# EAGLE library part 181-015-2 (library Connector_D-Sub)
D-SUB, 15POS, RCPT, R/A SLDR Datasheet <https://content.norcomp.net/rohspdfs/Connectors/18Y/181/181-YYY-213RYY1.pdf>
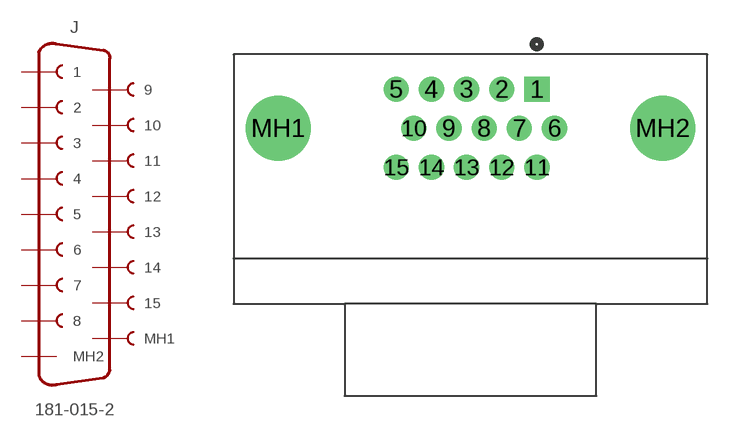
[diagram p6: symbol with the pads of 181-015-213R561; footprint 181-015-213R561]

Designator prefix J

## 181-015-2 (CATEGORY: Connector; GENDER: Female; MANUFACTURER: NorComp; MPN: 181-015-213R561; OPERATING_TEMPERATURE: -50 C to +100 C; PART_STATUS: ACTIVE; ROHS_COMPLIANT: COMPLIANT; SERIES: 181; SUB_CATEGORY: D-SUB; TYPE: R/A; VALUE: D-SUB-RCPT-15P)  [181-015-213R561]
1  1  pas
2  2  pas
3  3  pas
4  4  pas
5  5  pas
6  6  pas
7  7  pas
8  8  pas
9  9  pas
10  10  pas
11  11  pas
12  12  pas
13  13  pas
14  14  pas
15  15  pas
MH1  MH1  sup
MH2  MH2  sup

## Footprint 181-015-213R561 (pad centres in mm)
drill 1.092 square: 1 0,0
drill 1.092: 2 -2.286,0; 3 -4.572,0; 4 -6.858,0; 5 -9.144,0; 6 1.143,-2.54; 7 -1.143,-2.54; 8 -3.429,-2.54; 9 -5.715,-2.54; 10 -8.001,-2.54; 11 0,-5.08; 12 -2.286,-5.08; 13 -4.572,-5.08; 14 -6.858,-5.08; 15 -9.144,-5.08
drill 3.2: MH1 -16.817,-2.54; MH2 8.177,-2.54